# Altium integrated library LT Power Mgt Voltage Regulator.IntLib: 2 symbols
Pins are listed as number, name and electrical type; pins without a type are passive.

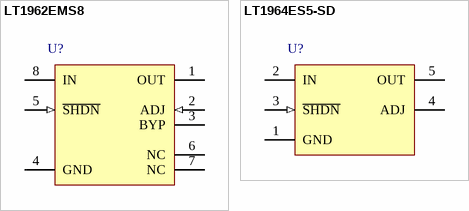
[diagram p0: symbols LT1962EMS8 to LT1964ES5-SD]

## LT1962EMS8
designator U?
300mA, Low Noise, Micropower Low Dropout Regulator; Note: 1916; Published: 30-May-2008; DatasheetVersion: Aug-2007; PackageVersion: revA, 2000; PackageReference: MS8; Publisher: Altium Limited; PackageDescription: 8-Pin Thin Small Outline Package 0.65 mm Pitch; ComponentLink1Description: Manufacturer Link; ComponentLink1URL: http://www.linear.com/; ComponentLink2Description: Datasheet; ComponentLink2URL: http://www.linear.com/pc/downloadDocument.do?navId=H0,C1,C1003,C1040,C1055,P1378,D3343
footprint MS8_N (TSOP, 8-Leads, Body 3x3mm, Pitch 0.65mm, IPC Medium Density)
footprint MS8_L (TSOP, 8-Leads, Body 3x3mm, Pitch 0.65mm, IPC High Density)
footprint MS8_M (TSOP, 8-Leads, Body 3x3mm, Pitch 0.65mm, IPC Low Density)
pins: 1 OUT (power), 2 ADJ (in), 3 BYP, 4 GND (power), 5 ~{SHDN} (in), 6 NC, 7 NC, 8 IN (power)

## LT1964ES5-SD
designator U?
200mA, Low Noise, Low Dropout Negative Micropower Regulator; Note: 1917; Published: 30-May-2008; DatasheetVersion: Aug-2007; PackageVersion: 2005; PackageReference: S5; Publisher: Altium Limited; PackageDescription: 5-Pin SOT-23 Package 0.95 mm Pitch, 2.8 mm Lead Span; Code_JEITA: SC-74A; Code_IPC: SOT23-5; ComponentLink1Description: Manufacturer Link; ComponentLink1URL: http://www.linear.com/; ComponentLink2Description: Datasheet; ComponentLink2URL: http://www.linear.com/pc/downloadDocument.do?navId=H0,C1,C1003,C1040,C1019,P2168,D1258
footprint S5_N (SOT23, 5-Leads, Body 3x1.6mm, Pitch 0.95mm, Lead Span 2.8mm, IPC Medium Density)
footprint S5_L (SOT23, 5-Leads, Body 3x1.6mm, Pitch 0.95mm, Lead Span 2.8mm, IPC High Density)
footprint S5_M (SOT23, 5-Leads, Body 3x1.6mm, Pitch 0.95mm, Lead Span 2.8mm, IPC Low Density)
pins: 1 GND (power), 2 IN (power), 3 ~{SHDN} (in), 4 ADJ, 5 OUT (power)